# EAGLE library part BQ25570RGRR (library TI_harvest)
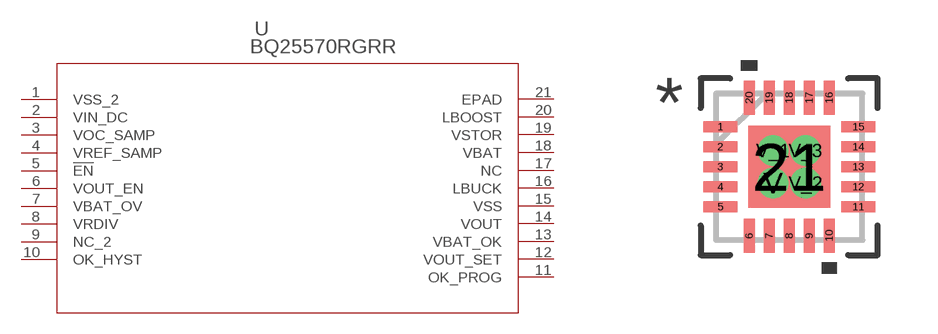
[diagram p0: symbol with the pads of RGR20_2P05X2P05; footprint RGR20_2P05X2P05]

Designator prefix U

## BQ25570RGRR (MANUFACTURER_PART_NUMBER: BQ25570RGRR; VENDOR: Texas Instruments)  [RGR20_2P05X2P05]
1  VSS_2  in
2  VIN_DC  in
3  VOC_SAMP  in
4  VREF_SAMP  in
5  !EN  in
6  VOUT_EN  in
7  VBAT_OV  pwr
8  VRDIV  out
9  NC_2  in
10  OK_HYST  in
11  OK_PROG  in
12  VOUT_SET  in
13  VBAT_OK  out
14  VOUT  out
15  VSS  pwr
16  LBUCK
17  NC  in
18  VBAT
19  VSTOR  out
20  LBOOST
21  EPAD  pas

## Footprint RGR20_2P05X2P05 (pad centres in mm)
smd 0.85 x 0.28: 1 -1.725,1; 2 -1.725,0.5; 3 -1.725,0; 4 -1.725,-0.5; 5 -1.725,-1; 11 1.725,-1; 12 1.725,-0.5; 13 1.725,0; 14 1.725,0.5; 15 1.725,1
smd 0.28 x 0.85: 6 -1,-1.725; 7 -0.5,-1.725; 8 0,-1.725; 9 0.5,-1.725; 10 1,-1.725; 16 1,1.725; 17 0.5,1.725; 18 0,1.725; 19 -0.5,1.725; 20 -1,1.725
smd 2.05 x 2.05: 21 0,0
drill 0.254 pad 0.508: V -0.406,-0.406; V_1 -0.406,0.406; V_2 0.406,-0.406; V_3 0.406,0.406